# EAGLE library part 3DSCH (library dubec)
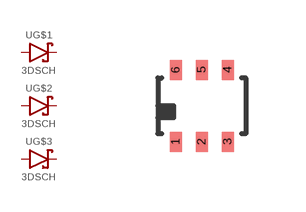
[diagram p35: symbol with the pads of SOT-363; footprint SOT-363]

Designator prefix -; gates G$1=DIODE_SCHOTTKY G$2=DIODE_SCHOTTKY G$3=DIODE_SCHOTTKY

## 3DSCH40V_0.35A (DIGIKEY_PART_#: SD103ATW-FDICT-ND; EPK: 87.43; MANUFACTURER: Diodes Incorporated; MFG_PART_#: SD103ATW-7-F; VF: 500mV @ 100mA)  [SOT-363]
1  G$1:C  pas
2  G$2:C  pas
3  G$3:C  pas
4  G$3:A  pas
5  G$2:A  pas
6  G$1:A  pas

## Footprint SOT-363 (pad centres in mm)
smd 0.3 x 0.5: 1 -0.65,-0.9; 2 0,-0.9; 3 0.65,-0.9; 4 0.65,0.9; 5 0,0.9; 6 -0.65,0.9